# Altium schematic symbol library CONN ICSP.SchLib: 1 symbol
Pins are listed as number, name and electrical type; pins without a type are passive.

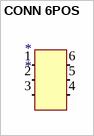
[diagram p0: symbol CONN 6POS]

## CONN 6POS
designator *
pins: 1 (in), 2 (in), 3 (in), 4 (in), 5 (in), 6 (in)